# EAGLE library part MEDER_REED_DIP05-1A72-12L (library meder_reed_DIP05-1A72-12L)
Meder Reed relay ic package 5V on coil, switching 15 watt
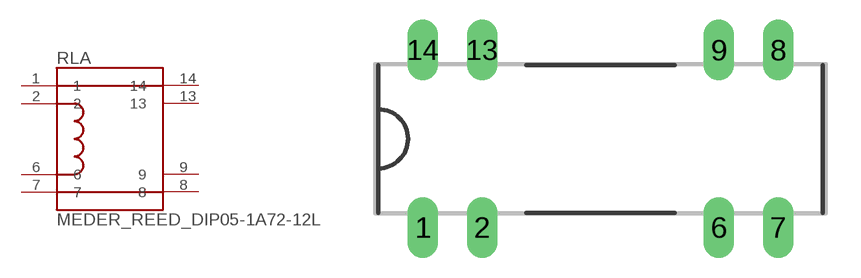
[diagram p0: symbol with the pads of DIP05-1A72-12L; footprint DIP05-1A72-12L]

Designator prefix RLA

## MEDER_REED_DIP05-1A72-12LDIP  [DIP05-1A72-12L]
1  1
2  2
6  6
7  7
8  8
9  9
13  13
14  14

## Footprint DIP05-1A72-12L (pad centres in mm)
drill 0.8 long: 1 -7.62,-3.81; 2 -5.08,-3.81; 6 5.08,-3.81; 7 7.62,-3.81; 8 7.62,3.81; 9 5.08,3.81; 13 -5.08,3.81; 14 -7.62,3.81